# EAGLE library part LM555CMX_NOPB (library LM555CMX_NOPB)
Highly stable 555 timer for generating accurate time delays and oscillation Source: Datasheet <http://www.ti.com/lit/ds/symlink/lm555.pdf>
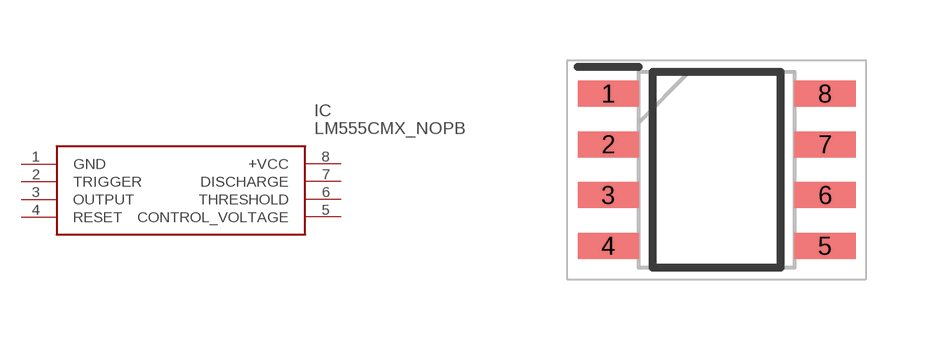
[diagram p0: symbol with the pads of SOIC127P600X175-8N; footprint SOIC127P600X175-8N]

Designator prefix IC

## LM555CMX_NOPB (Description: Highly stable 555 timer for generating accurate time delays and oscillation; Height: 1.75mm; Manufacturer_Name: Texas Instruments; Manufacturer_Part_Number: LM555CMX/NOPB; Mouser_Part_Number: 926-LM555CMX/NOPB; Mouser_Price-Stock: https://www.mouser.co.uk/ProductDetail/Texas-Instruments/LM555CMX-NOPB?qs=QbsRYf82W3GHnQuoL%2FmIoA%3D%3D)  [SOIC127P600X175-8N]
1  GND
2  TRIGGER
3  OUTPUT
4  RESET
5  CONTROL_VOLTAGE
6  THRESHOLD
7  DISCHARGE
8  +VCC

## Footprint SOIC127P600X175-8N (pad centres in mm)
D0008A
smd 1.528 x 0.65: 1 -2.711,1.905; 2 -2.711,0.635; 3 -2.711,-0.635; 4 -2.711,-1.905; 5 2.711,-1.905; 6 2.711,-0.635; 7 2.711,0.635; 8 2.711,1.905